# EAGLE library part SD_CARD (library ARVP)
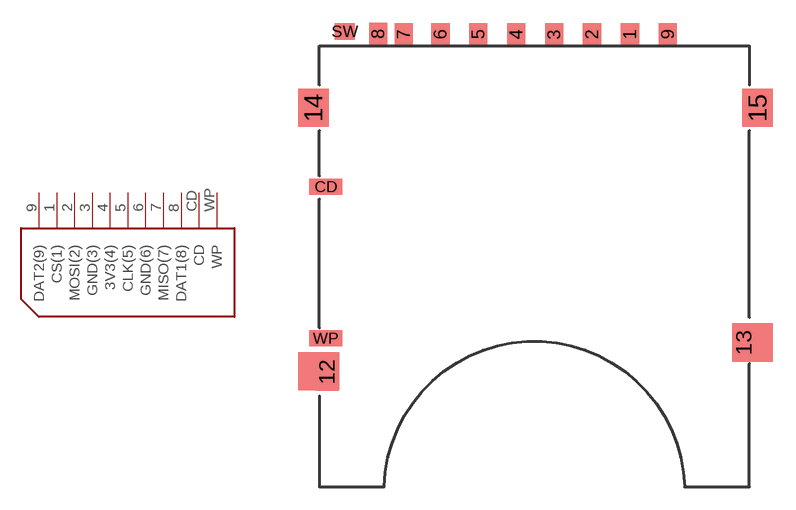
[diagram p0: symbol with the pads of SD_CARD; footprint SD_CARD]

Designator prefix -

## SD_CARD  [SD_CARD]
1  CS(1)
2  MOSI(2)
3  GND(3)
4  3V3(4)
5  CLK(5)
6  GND(6)
7  MISO(7)
8  DAT1(8)
9  DAT2(9)
CD  CD
WP  WP

## Footprint SD_CARD (pad centres in mm)
smd 1.2 x 1.5: 1 6.88,12.07; 2 4.38,12.07; 3 1.88,12.07; 4 -0.62,12.07; 5 -3.12,12.07; 6 -5.62,12.07; 7 -8.04,12.07; 8 -9.728,12.09; 9 9.38,12.07
smd 1.5 x 2.5: 12 -13.1,-10.18; 13 14.402,-8.255
smd 2 x 2.5: 14 -14,7.22; 15 15.3,7.22
smd 2.184 x 1.067: CD -13.18,2.02; WP -13.18,-7.98
smd 1.3 x 1.1: SW -11.938,12.268